# EAGLE library part MAX3244E_MAX3245E (library MAX9812)
Maxim's MAX3224-MAX3245 ±15kV ESD-Protected, 1?A, 1Mbps, 3.0V to 5.5V, RS-232 Transceivers with AutoShutdown Plus Description: The MAX3224E/MAX3225E/MAX3226E/MAX3227E/ MAX3244E/MAX3245E are 3V-powered EIA/TIA-232 and V.28/V.24 communications interfaces with automatic shutdown/wakeup features, high data-rate capabilities, and enhanced electrostatic discharge (ESD) protection. All transmitter outputs and receiver inputs are protected to ±15kV using IEC 1000-4-2 Air-Gap Discharge, ±8kV using IEC 1000-4-2 Contact Discharge, and ±15kV using the Human Body Model. All devices achieve a 1µA supply current using Maxim's revolutionary AutoShutdown Plus feature. These devices automatically enter a low-power shutdown mode when the RS-232 cable is disconnected or the transmitters of the connected peripherals are inactive, and the UART driving the transmitter inputs is inactive for more than 30 seconds. They turn on again when they sense a valid transition at any transmitter or receiver input. AutoShutdown Plus saves power without hanges to the existing BIOS or operating system. The MAX3225E/MAX3227E/MAX3245E also feature MegaBaud oper ation, guaranteeing 1Mbps for highspeed applications such as communicating with ISDN modems. The MAX3224E/MAX3226E/MAX3244E guarantee 250kbps operation. The transceivers have a proprietary low-dropout transmitter output stage enabling true RS-232 performance from a +3.0V to +5.5V supply with a dual charge pump. The charge pump requires only four small 0.1µF capacitors for operation from a 3.3V supply. The MAX3224E-MAX3227E feature a logiclevel output (READY) that asserts when the charge pump is regulating and the device is ready to begin transmitting. All devices are available in a space-saving SSOP and TSSOP (MAX3224E/MAX3225E/MAX3244E/MAX3245E) packages. Features: For Space-Constrained Applications: MAX3228E/MAX3229E: ±15kV ESD-Protected, +2.5V to +5.5V, RS-232 Transceivers in UCSP MAX3222E/MAX3232E/MAX3241E/MAX3246E: ±15kV ESD-Protected, Down to 10nA, +3.0V to +5.5V, Up to 1Mbps, True RS-232 Transceivers (MAX3246E Available in UCSP) For Low-Voltage or Data Cable Applications: MAX3380E/MAX3381E: +2.35V to +5.5V, 1µA, 2Tx/2Rx RS-232 Transceivers with ±15kV ESD-Protected I/O and Logic Pins Applications: Notebook, Subnotebook, and Palmtop Computers Cellular Phones Battery-Powered Equipment Hand-Held Equipment Peripherals Printers Please send any comments to: messi@users.sourceforge.net
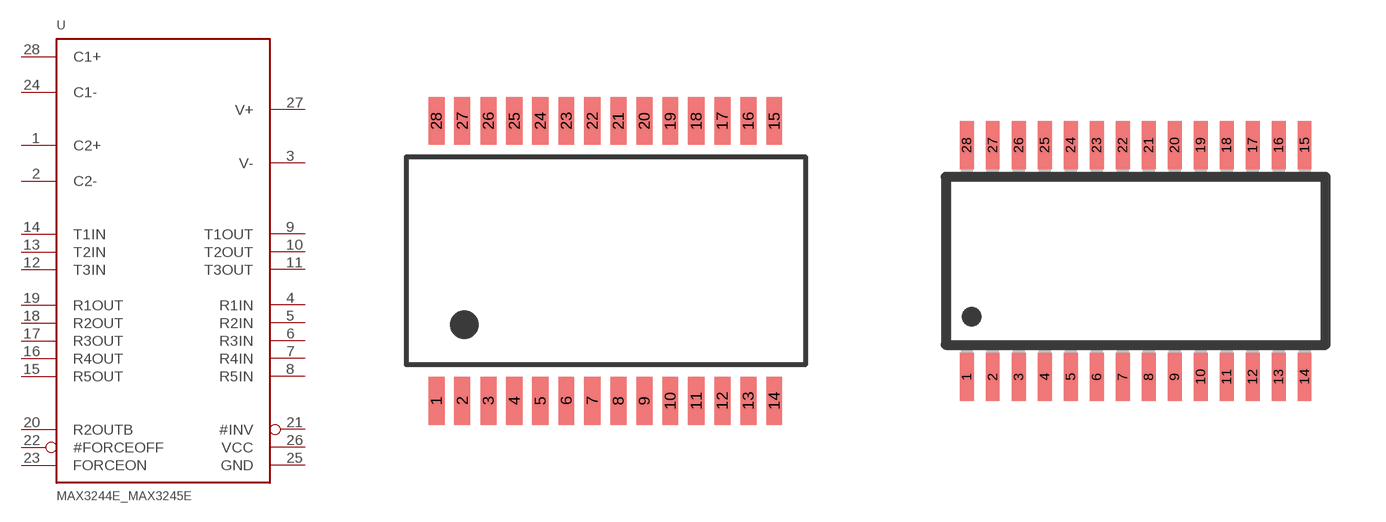
[diagram p127: symbol with the pads of SSOP28; footprints SSOP28, TSSOP28]

Designator prefix U

## MAX3244E_MAX3245ECAI  [SSOP28]
1  C2+  in
2  C2-  in
3  V-
4  R1IN  in
5  R2IN  in
6  R3IN  in
7  R4IN  in
8  R5IN  in
9  T1OUT  out
10  T2OUT  out
11  T3OUT  out
12  T3IN  in
13  T2IN  in
14  T1IN  in
15  R5OUT  out
16  R4OUT  out
17  R3OUT  out
18  R2OUT  out
19  R1OUT  out
20  R2OUTB  out
21  #INV  out
22  #FORCEOFF  in
23  FORCEON  in
24  C1-  in
25  GND  pwr
26  VCC  pwr
27  V+
28  C1+  in

## MAX3244E_MAX3245ECUI  [TSSOP28]
Pads as for SSOP28

## Footprint SSOP28 (pad centres in mm)
SSOP-28 Package E.g. LTC1628
smd 0.4 x 1.2: 1 -4.225,-3.5; 2 -3.575,-3.5; 3 -2.925,-3.5; 4 -2.275,-3.5; 5 -1.625,-3.5; 6 -0.975,-3.5; 7 -0.325,-3.5; 8 0.325,-3.5; 9 0.975,-3.5; 10 1.625,-3.5; 11 2.275,-3.5; 12 2.925,-3.5; 13 3.575,-3.5; 14 4.225,-3.5; 15 4.225,3.5; 16 3.575,3.5; 17 2.925,3.5; 18 2.275,3.5; 19 1.625,3.5; 20 0.975,3.5; 21 0.325,3.5; 22 -0.325,3.5; 23 -0.975,3.5; 24 -1.625,3.5; 25 -2.275,3.5; 26 -2.925,3.5; 27 -3.575,3.5; 28 -4.225,3.5

## Footprint TSSOP28 (pad centres in mm)
28-Lead TSSOP Package RU-28
smd 0.35 x 1.2: 1 -4.225,-2.9; 2 -3.575,-2.9; 3 -2.925,-2.9; 4 -2.275,-2.9; 5 -1.625,-2.9; 6 -0.975,-2.9; 7 -0.325,-2.9; 8 0.325,-2.9; 9 0.975,-2.9; 10 1.625,-2.9; 11 2.275,-2.9; 12 2.925,-2.9; 13 3.575,-2.9; 14 4.225,-2.9; 15 4.225,2.9; 16 3.575,2.9; 17 2.925,2.9; 18 2.275,2.9; 19 1.625,2.9; 20 0.975,2.9; 21 0.325,2.9; 22 -0.325,2.9; 23 -0.975,2.9; 24 -1.625,2.9; 25 -2.275,2.9; 26 -2.925,2.9; 27 -3.575,2.9; 28 -4.225,2.9